# Altium schematic symbol library Schottky_x2_series.SchLib: 1 symbol
Pins are listed as number, name and electrical type; pins without a type are passive.

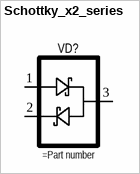
[diagram p0: symbol Schottky_x2_series]

## Schottky_x2_series
designator VD?
pins: 1, 2, 3